# Altium schematic symbol library Altium_Box_Header_MP4C.SchLib: 79 symbols (part 2 of 2)
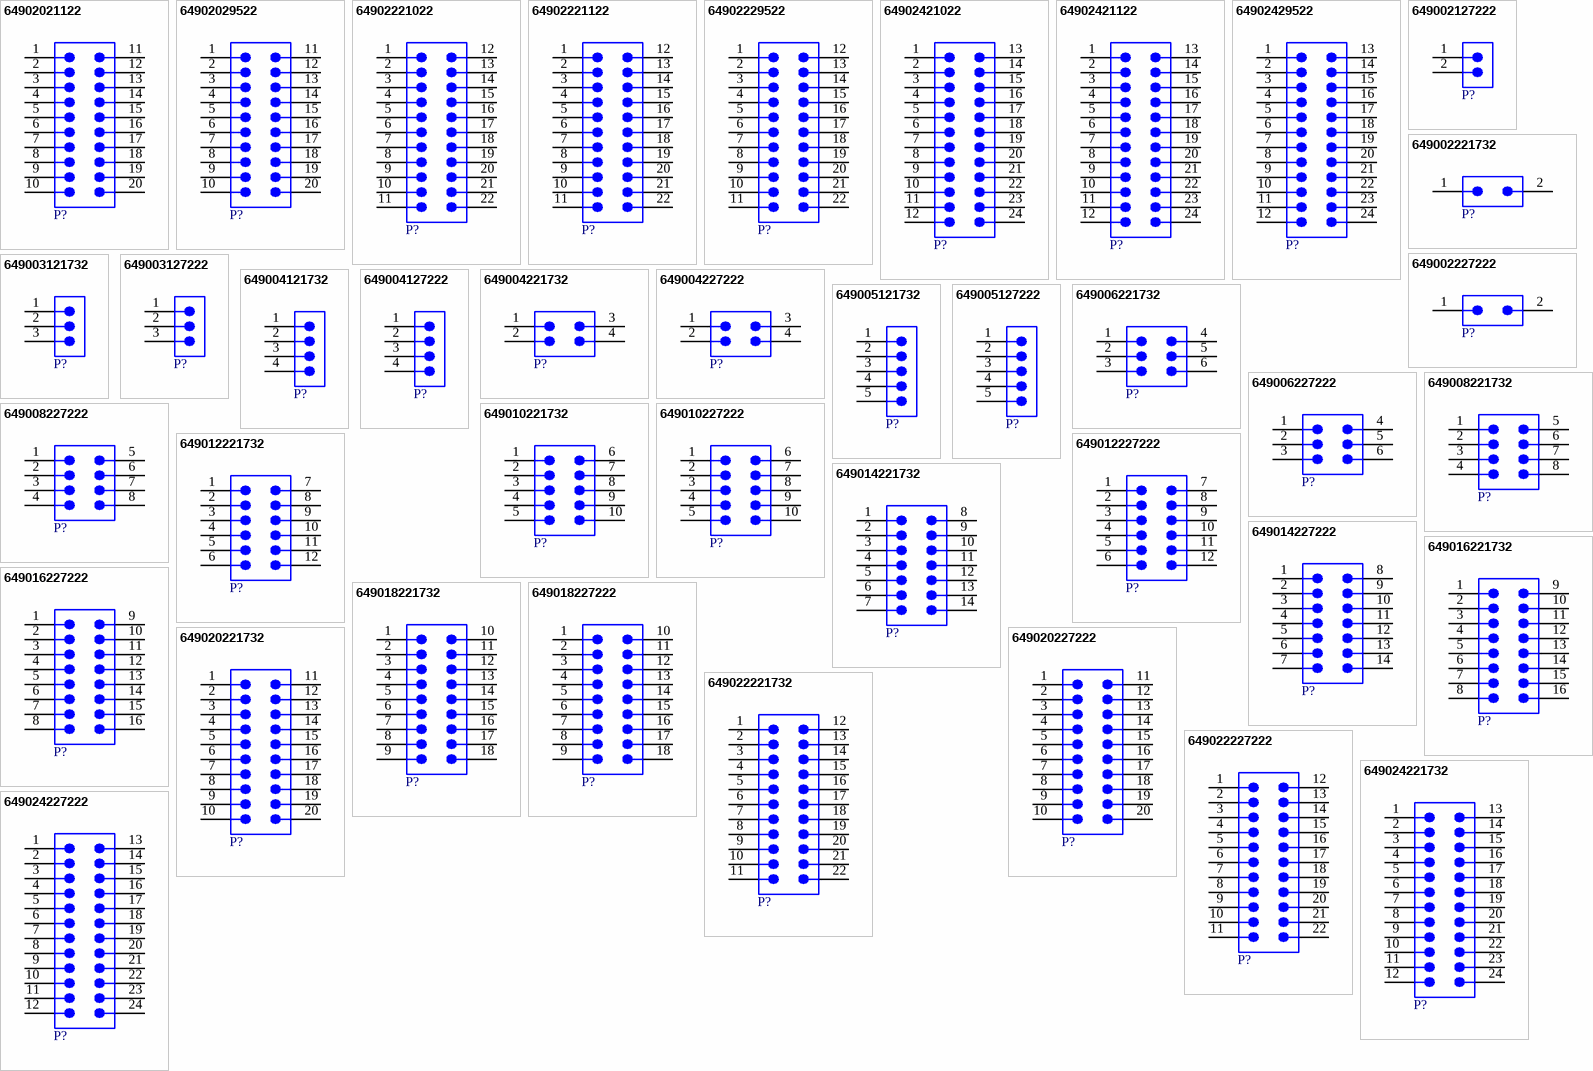
[diagram p2: symbols 64902021122 to 649024227222]

## 649004121732
designator P?  (value not drawn)
WR-MPC4 THT Male Vertical Header with Mounting Pegs, pitch 4.2mm, 4p; Manufacturer: Wurth Elektronik; Contact Resistance: 10mΩ; Insulation Resistance: 1000MΩ; Rated Current: 9A; Working Voltage: 600VAC; ComponentLink1Description: Datasheet; ComponentLink1URL: https://www.we-online.com/redexpert/spec/649004121732?ad; Manufacturer Part Number: 649004121732; Match Code: WR-MPC4; Mount: THT; Operating Temperature Max: 105°C; Operating Temperature Min: -40°C; Packaging: Tray; Gender: Male; Number of Pins: 4; Number of Rows: 1; Orientation: Vertical; Pitch: 4.2mm; Supplier 1 URL: N/A; Supplier 2 URL: N/A; Supplier 3 URL: N/A; LCSC Part #: N/A; Package / Case: WR-MPC4; Supplier 1: Mouser; Supplier 1 Part Number: N/A; Supplier 2: Digi-Key; Supplier 2 Part Number: N/A; Supplier 3: thegioiic; Supplier 3 Part Number: N/A
footprint 649004121732
pins: 1, 2, 3, 4

## 649004127222
designator P?  (value not drawn)
WR-MPC4 THT Male Right Angled Header with Mounting Pegs, pitch 4.2mm, 4p; Manufacturer: Wurth Elektronik; Contact Resistance: 10mΩ; Insulation Resistance: 1000MΩ; Rated Current: 8A; Working Voltage: 600VAC; ComponentLink1Description: Datasheet; ComponentLink1URL: https://www.we-online.com/redexpert/spec/649004127222?ad; Manufacturer Part Number: 649004127222; Match Code: WR-MPC4; Mount: THT; Operating Temperature Max: 105°C; Operating Temperature Min: -40°C; Packaging: Tray; Gender: Male; Number of Pins: 4; Number of Rows: 1; Orientation: Right Angled; Pitch: 4.2mm; Supplier 1 URL: N/A; Supplier 2 URL: N/A; Supplier 3 URL: N/A; LCSC Part #: N/A; Package / Case: WR-MPC4; Supplier 1: Mouser; Supplier 1 Part Number: N/A; Supplier 2: Digi-Key; Supplier 2 Part Number: N/A; Supplier 3: thegioiic; Supplier 3 Part Number: N/A
footprint 649004127222
pins: 1, 2, 3, 4

## 649004221732
designator P?  (value not drawn)
WR-MPC4 THT Male Vertical Header with Mounting Pegs, pitch 4.2mm, 4p; Manufacturer: Wurth Elektronik; Contact Resistance: 10mΩ; Insulation Resistance: 1000MΩ; Rated Current: 8A; Working Voltage: 600VAC; ComponentLink1Description: Datasheet; ComponentLink1URL: https://www.we-online.com/redexpert/spec/649004221732?ad; Manufacturer Part Number: 649004221732; Match Code: WR-MPC4; Mount: THT; Operating Temperature Max: 105°C; Operating Temperature Min: -40°C; Packaging: Tray; Gender: Male; Number of Pins: 4; Number of Rows: 2; Orientation: Vertical; Pitch: 4.2mm; Supplier 1 URL: N/A; Supplier 2 URL: N/A; Supplier 3 URL: N/A; LCSC Part #: N/A; Package / Case: WR-MPC4; Supplier 1: Mouser; Supplier 1 Part Number: N/A; Supplier 2: Digi-Key; Supplier 2 Part Number: N/A; Supplier 3: thegioiic; Supplier 3 Part Number: N/A
footprint 649004221732
pins: 1, 2, 3, 4

## 649004227222
designator P?  (value not drawn)
WR-MPC4 THT Male Right Angled Header with Mounting Pegs, pitch 4.2mm, 4p; Manufacturer: Wurth Elektronik; Contact Resistance: 10mΩ; Insulation Resistance: 1000MΩ; Rated Current: 8A; Working Voltage: 600VAC; ComponentLink1Description: Datasheet; ComponentLink1URL: https://www.we-online.com/redexpert/spec/649004227222?ad; Manufacturer Part Number: 649004227222; Match Code: WR-MPC4; Mount: THT; Operating Temperature Max: 105°C; Operating Temperature Min: -40°C; Packaging: Tray; Gender: Male; Number of Pins: 4; Number of Rows: 2; Orientation: Right Angled; Pitch: 4.2mm; Supplier 1 URL: N/A; Supplier 2 URL: N/A; Supplier 3 URL: N/A; LCSC Part #: N/A; Package / Case: WR-MPC4; Supplier 1: Mouser; Supplier 1 Part Number: N/A; Supplier 2: Digi-Key; Supplier 2 Part Number: N/A; Supplier 3: thegioiic; Supplier 3 Part Number: N/A
footprint 649004227222
pins: 1, 2, 3, 4

## 649005121732
designator P?  (value not drawn)
WR-MPC4 THT Male Vertical Header with Mounting Pegs, pitch 4.2mm, 5p; Manufacturer: Wurth Elektronik; Contact Resistance: 10mΩ; Insulation Resistance: 1000MΩ; Rated Current: 9A; Working Voltage: 600VAC; ComponentLink1Description: Datasheet; ComponentLink1URL: https://www.we-online.com/redexpert/spec/649005121732?ad; Manufacturer Part Number: 649005121732; Match Code: WR-MPC4; Mount: THT; Operating Temperature Max: 105°C; Operating Temperature Min: -40°C; Packaging: Tray; Gender: Male; Number of Pins: 5; Number of Rows: 1; Orientation: Vertical; Pitch: 4.2mm; Supplier 1 URL: N/A; Supplier 2 URL: N/A; Supplier 3 URL: N/A; LCSC Part #: N/A; Package / Case: WR-MPC4; Supplier 1: Mouser; Supplier 1 Part Number: N/A; Supplier 2: Digi-Key; Supplier 2 Part Number: N/A; Supplier 3: thegioiic; Supplier 3 Part Number: N/A
footprint 649005121732
pins: 1, 2, 3, 4, 5

## 649005127222
designator P?  (value not drawn)
WR-MPC4 THT Male Right Angled Header with Mounting Pegs, pitch 4.2mm, 5p; Manufacturer: Wurth Elektronik; Contact Resistance: 10mΩ; Insulation Resistance: 1000MΩ; Rated Current: 8A; Working Voltage: 600VAC; ComponentLink1Description: Datasheet; ComponentLink1URL: https://www.we-online.com/redexpert/spec/649005127222?ad; Manufacturer Part Number: 649005127222; Match Code: WR-MPC4; Mount: THT; Operating Temperature Max: 105°C; Operating Temperature Min: -40°C; Packaging: Tray; Gender: Male; Number of Pins: 5; Number of Rows: 1; Orientation: Right Angled; Pitch: 4.2mm; Supplier 1 URL: N/A; Supplier 2 URL: N/A; Supplier 3 URL: N/A; LCSC Part #: N/A; Package / Case: WR-MPC4; Supplier 1: Mouser; Supplier 1 Part Number: N/A; Supplier 2: Digi-Key; Supplier 2 Part Number: N/A; Supplier 3: thegioiic; Supplier 3 Part Number: N/A
footprint 649005127222
pins: 1, 2, 3, 4, 5

## 649006221732
designator P?  (value not drawn)
WR-MPC4 THT Male Vertical Header with Mounting Pegs, pitch 4.2mm, 6p; Manufacturer: Wurth Elektronik; Contact Resistance: 10mΩ; Insulation Resistance: 1000MΩ; Rated Current: 8A; Working Voltage: 600VAC; ComponentLink1Description: Datasheet; ComponentLink1URL: https://www.we-online.com/redexpert/spec/649006221732?ad; Manufacturer Part Number: 649006221732; Match Code: WR-MPC4; Mount: THT; Operating Temperature Max: 105°C; Operating Temperature Min: -40°C; Packaging: Tray; Gender: Male; Number of Pins: 6; Number of Rows: 2; Orientation: Vertical; Pitch: 4.2mm; Supplier 1 URL: N/A; Supplier 2 URL: N/A; Supplier 3 URL: N/A; LCSC Part #: N/A; Package / Case: WR-MPC4; Supplier 1: Mouser; Supplier 1 Part Number: N/A; Supplier 2: Digi-Key; Supplier 2 Part Number: N/A; Supplier 3: thegioiic; Supplier 3 Part Number: N/A
footprint 649006221732
pins: 1, 2, 3, 4, 5, 6

## 649006227222
designator P?  (value not drawn)
WR-MPC4 THT Male Right Angled Header with Mounting Pegs, pitch 4.2mm, 6p; Manufacturer: Wurth Elektronik; Contact Resistance: 10mΩ; Insulation Resistance: 1000MΩ; Rated Current: 8A; Working Voltage: 600VAC; ComponentLink1Description: Datasheet; ComponentLink1URL: https://www.we-online.com/redexpert/spec/649006227222?ad; Manufacturer Part Number: 649006227222; Match Code: WR-MPC4; Mount: THT; Operating Temperature Max: 105°C; Operating Temperature Min: -40°C; Packaging: Tray; Gender: Male; Number of Pins: 6; Number of Rows: 2; Orientation: Right Angled; Pitch: 4.2mm; Supplier 1 URL: N/A; Supplier 2 URL: N/A; Supplier 3 URL: N/A; LCSC Part #: N/A; Package / Case: WR-MPC4; Supplier 1: Mouser; Supplier 1 Part Number: N/A; Supplier 2: Digi-Key; Supplier 2 Part Number: N/A; Supplier 3: thegioiic; Supplier 3 Part Number: N/A
footprint 649006227222
pins: 1, 2, 3, 4, 5, 6

## 649008221732
designator P?  (value not drawn)
WR-MPC4 THT Male Vertical Header with Mounting Pegs, pitch 4.2mm, 8p; Manufacturer: Wurth Elektronik; Contact Resistance: 10mΩ; Insulation Resistance: 1000MΩ; Rated Current: 7A; Working Voltage: 600VAC; ComponentLink1Description: Datasheet; ComponentLink1URL: https://www.we-online.com/redexpert/spec/649008221732?ad; Manufacturer Part Number: 649008221732; Match Code: WR-MPC4; Mount: THT; Operating Temperature Max: 105°C; Operating Temperature Min: -40°C; Packaging: Tray; Gender: Male; Number of Pins: 8; Number of Rows: 2; Orientation: Vertical; Pitch: 4.2mm; Supplier 1 URL: N/A; Supplier 2 URL: N/A; Supplier 3 URL: N/A; LCSC Part #: N/A; Package / Case: WR-MPC4; Supplier 1: Mouser; Supplier 1 Part Number: N/A; Supplier 2: Digi-Key; Supplier 2 Part Number: N/A; Supplier 3: thegioiic; Supplier 3 Part Number: N/A
footprint 649008221732
pins: 1, 2, 3, 4, 5, 6, 7, 8

## 649008227222
designator P?  (value not drawn)
WR-MPC4 THT Male Right Angled Header with Mounting Pegs, pitch 4.2mm, 8p; Manufacturer: Wurth Elektronik; Contact Resistance: 10mΩ; Insulation Resistance: 1000MΩ; Rated Current: 7A; Working Voltage: 600VAC; ComponentLink1Description: Datasheet; ComponentLink1URL: https://www.we-online.com/redexpert/spec/649008227222?ad; Manufacturer Part Number: 649008227222; Match Code: WR-MPC4; Mount: THT; Operating Temperature Max: 105°C; Operating Temperature Min: -40°C; Packaging: Tray; Gender: Male; Number of Pins: 8; Number of Rows: 2; Orientation: Right Angled; Pitch: 4.2mm; Supplier 1 URL: N/A; Supplier 2 URL: N/A; Supplier 3 URL: N/A; LCSC Part #: N/A; Package / Case: WR-MPC4; Supplier 1: Mouser; Supplier 1 Part Number: N/A; Supplier 2: Digi-Key; Supplier 2 Part Number: N/A; Supplier 3: thegioiic; Supplier 3 Part Number: N/A
footprint 649008227222
pins: 1, 2, 3, 4, 5, 6, 7, 8

## 649010221732
designator P?  (value not drawn)
WR-MPC4 THT Male Vertical Header with Mounting Pegs, pitch 4.2mm, 10p; Manufacturer: Wurth Elektronik; Contact Resistance: 10mΩ; Insulation Resistance: 1000MΩ; Rated Current: 7A; Working Voltage: 600VAC; ComponentLink1Description: Datasheet; ComponentLink1URL: https://www.we-online.com/redexpert/spec/649010221732?ad; Manufacturer Part Number: 649010221732; Match Code: WR-MPC4; Mount: THT; Operating Temperature Max: 105°C; Operating Temperature Min: -40°C; Packaging: Tray; Gender: Male; Number of Pins: 10; Number of Rows: 2; Orientation: Vertical; Pitch: 4.2mm; Supplier 1 URL: N/A; Supplier 2 URL: N/A; Supplier 3 URL: N/A; LCSC Part #: N/A; Package / Case: WR-MPC4; Supplier 1: Mouser; Supplier 1 Part Number: N/A; Supplier 2: Digi-Key; Supplier 2 Part Number: N/A; Supplier 3: thegioiic; Supplier 3 Part Number: N/A
footprint 649010221732
pins: 1, 2, 3, 4, 5, 6, 7, 8, 9, 10

## 649010227222
designator P?  (value not drawn)
WR-MPC4 THT Male Right Angled Header with Mounting Pegs, pitch 4.2mm, 10p; Manufacturer: Wurth Elektronik; Contact Resistance: 10mΩ; Insulation Resistance: 1000MΩ; Rated Current: 7A; Working Voltage: 600VAC; ComponentLink1Description: Datasheet; ComponentLink1URL: https://www.we-online.com/redexpert/spec/649010227222?ad; Manufacturer Part Number: 649010227222; Match Code: WR-MPC4; Mount: THT; Operating Temperature Max: 105°C; Operating Temperature Min: -40°C; Packaging: Tray; Gender: Male; Number of Pins: 10; Number of Rows: 2; Orientation: Right Angled; Pitch: 4.2mm; Supplier 1 URL: N/A; Supplier 2 URL: N/A; Supplier 3 URL: N/A; LCSC Part #: N/A; Package / Case: WR-MPC4; Supplier 1: Mouser; Supplier 1 Part Number: N/A; Supplier 2: Digi-Key; Supplier 2 Part Number: N/A; Supplier 3: thegioiic; Supplier 3 Part Number: N/A
footprint 649010227222
pins: 1, 2, 3, 4, 5, 6, 7, 8, 9, 10

## 649012221732
designator P?  (value not drawn)
WR-MPC4 THT Male Vertical Header with Mounting Pegs, pitch 4.2mm, 12p; Manufacturer: Wurth Elektronik; Contact Resistance: 10mΩ; Insulation Resistance: 1000MΩ; Rated Current: 6A; Working Voltage: 600VAC; ComponentLink1Description: Datasheet; ComponentLink1URL: https://www.we-online.com/redexpert/spec/649012221732?ad; Manufacturer Part Number: 649012221732; Match Code: WR-MPC4; Mount: THT; Operating Temperature Max: 105°C; Operating Temperature Min: -40°C; Packaging: Tray; Gender: Male; Number of Pins: 12; Number of Rows: 2; Orientation: Vertical; Pitch: 4.2mm; Supplier 1 URL: N/A; Supplier 2 URL: N/A; Supplier 3 URL: N/A; LCSC Part #: N/A; Package / Case: WR-MPC4; Supplier 1: Mouser; Supplier 1 Part Number: N/A; Supplier 2: Digi-Key; Supplier 2 Part Number: N/A; Supplier 3: thegioiic; Supplier 3 Part Number: N/A
footprint 649012221732
pins: 1, 2, 3, 4, 5, 6, 7, 8, 9, 10, 11, 12

## 649012227222
designator P?  (value not drawn)
WR-MPC4 THT Male Right Angled Header with Mounting Pegs, pitch 4.2mm, 12p; Manufacturer: Wurth Elektronik; Contact Resistance: 10mΩ; Insulation Resistance: 1000MΩ; Rated Current: 6A; Working Voltage: 600VAC; ComponentLink1Description: Datasheet; ComponentLink1URL: https://www.we-online.com/redexpert/spec/649012227222?ad; Manufacturer Part Number: 649012227222; Match Code: WR-MPC4; Mount: THT; Operating Temperature Max: 105°C; Operating Temperature Min: -40°C; Packaging: Tray; Gender: Male; Number of Pins: 12; Number of Rows: 2; Orientation: Right Angled; Pitch: 4.2mm; Supplier 1 URL: N/A; Supplier 2 URL: N/A; Supplier 3 URL: N/A; LCSC Part #: N/A; Package / Case: WR-MPC4; Supplier 1: Mouser; Supplier 1 Part Number: N/A; Supplier 2: Digi-Key; Supplier 2 Part Number: N/A; Supplier 3: thegioiic; Supplier 3 Part Number: N/A
footprint 649012227222
pins: 1, 2, 3, 4, 5, 6, 7, 8, 9, 10, 11, 12

## 649014221732
designator P?  (value not drawn)
WR-MPC4 THT Male Vertical Header with Mounting Pegs, pitch 4.2mm, 14p; Manufacturer: Wurth Elektronik; Contact Resistance: 10mΩ; Insulation Resistance: 1000MΩ; Rated Current: 6A; Working Voltage: 600VAC; ComponentLink1Description: Datasheet; ComponentLink1URL: https://www.we-online.com/redexpert/spec/649014221732?ad; Manufacturer Part Number: 649014221732; Match Code: WR-MPC4; Mount: THT; Operating Temperature Max: 105°C; Operating Temperature Min: -40°C; Packaging: Tray; Gender: Male; Number of Pins: 14; Number of Rows: 2; Orientation: Vertical; Pitch: 4.2mm; Supplier 1 URL: N/A; Supplier 2 URL: N/A; Supplier 3 URL: N/A; LCSC Part #: N/A; Package / Case: WR-MPC4; Supplier 1: Mouser; Supplier 1 Part Number: N/A; Supplier 2: Digi-Key; Supplier 2 Part Number: N/A; Supplier 3: thegioiic; Supplier 3 Part Number: N/A
footprint 649014221732
pins: 1, 2, 3, 4, 5, 6, 7, 8, 9, 10, 11, 12, 13, 14

## 649014227222
designator P?  (value not drawn)
WR-MPC4 THT Male Right Angled Header with Mounting Pegs, pitch 4.2mm, 14p; Manufacturer: Wurth Elektronik; Contact Resistance: 10mΩ; Insulation Resistance: 1000MΩ; Rated Current: 6A; Working Voltage: 600VAC; ComponentLink1Description: Datasheet; ComponentLink1URL: https://www.we-online.com/redexpert/spec/649014227222?ad; Manufacturer Part Number: 649014227222; Match Code: WR-MPC4; Mount: THT; Operating Temperature Max: 105°C; Operating Temperature Min: -40°C; Packaging: Tray; Gender: Male; Number of Pins: 14; Number of Rows: 2; Orientation: Right Angled; Pitch: 4.2mm; Supplier 1 URL: N/A; Supplier 2 URL: N/A; Supplier 3 URL: N/A; LCSC Part #: N/A; Package / Case: WR-MPC4; Supplier 1: Mouser; Supplier 1 Part Number: N/A; Supplier 2: Digi-Key; Supplier 2 Part Number: N/A; Supplier 3: thegioiic; Supplier 3 Part Number: N/A
footprint 649014227222
pins: 1, 2, 3, 4, 5, 6, 7, 8, 9, 10, 11, 12, 13, 14

## 649016221732
designator P?  (value not drawn)
WR-MPC4 THT Male Vertical Header with Mounting Pegs, pitch 4.2mm, 16p; Manufacturer: Wurth Elektronik; Contact Resistance: 10mΩ; Insulation Resistance: 1000MΩ; Rated Current: 6A; Working Voltage: 600VAC; ComponentLink1Description: Datasheet; ComponentLink1URL: https://www.we-online.com/redexpert/spec/649016221732?ad; Manufacturer Part Number: 649016221732; Match Code: WR-MPC4; Mount: THT; Operating Temperature Max: 105°C; Operating Temperature Min: -40°C; Packaging: Tray; Gender: Male; Number of Pins: 16; Number of Rows: 2; Orientation: Vertical; Pitch: 4.2mm; Supplier 1 URL: N/A; Supplier 2 URL: N/A; Supplier 3 URL: N/A; LCSC Part #: N/A; Package / Case: WR-MPC4; Supplier 1: Mouser; Supplier 1 Part Number: N/A; Supplier 2: Digi-Key; Supplier 2 Part Number: N/A; Supplier 3: thegioiic; Supplier 3 Part Number: N/A
footprint 649016221732
pins: 1, 2, 3, 4, 5, 6, 7, 8, 9, 10, 11, 12, 13, 14, 15, 16

## 649016227222
designator P?  (value not drawn)
WR-MPC4 THT Male Right Angled Header with Mounting Pegs, pitch 4.2mm, 16p; Manufacturer: Wurth Elektronik; Contact Resistance: 10mΩ; Insulation Resistance: 1000MΩ; Rated Current: 6A; Working Voltage: 600VAC; ComponentLink1Description: Datasheet; ComponentLink1URL: https://www.we-online.com/redexpert/spec/649016227222?ad; Manufacturer Part Number: 649016227222; Match Code: WR-MPC4; Mount: THT; Operating Temperature Max: 105°C; Operating Temperature Min: -40°C; Packaging: Tray; Gender: Male; Number of Pins: 16; Number of Rows: 2; Orientation: Right Angled; Pitch: 4.2mm; Supplier 1 URL: N/A; Supplier 2 URL: N/A; Supplier 3 URL: N/A; LCSC Part #: N/A; Package / Case: WR-MPC4; Supplier 1: Mouser; Supplier 1 Part Number: N/A; Supplier 2: Digi-Key; Supplier 2 Part Number: N/A; Supplier 3: thegioiic; Supplier 3 Part Number: N/A
footprint 649016227222
pins: 1, 2, 3, 4, 5, 6, 7, 8, 9, 10, 11, 12, 13, 14, 15, 16

## 649018221732
designator P?  (value not drawn)
WR-MPC4 THT Male Vertical Header with Mounting Pegs, pitch 4.2mm, 18p; Manufacturer: Wurth Elektronik; Contact Resistance: 10mΩ; Insulation Resistance: 1000MΩ; Rated Current: 6A; Working Voltage: 600VAC; ComponentLink1Description: Datasheet; ComponentLink1URL: https://www.we-online.com/redexpert/spec/649018221732?ad; Manufacturer Part Number: 649018221732; Match Code: WR-MPC4; Mount: THT; Operating Temperature Max: 105°C; Operating Temperature Min: -40°C; Packaging: Tray; Gender: Male; Number of Pins: 18; Number of Rows: 2; Orientation: Vertical; Pitch: 4.2mm; Supplier 1 URL: N/A; Supplier 2 URL: N/A; Supplier 3 URL: N/A; LCSC Part #: N/A; Package / Case: WR-MPC4; Supplier 1: Mouser; Supplier 1 Part Number: N/A; Supplier 2: Digi-Key; Supplier 2 Part Number: N/A; Supplier 3: thegioiic; Supplier 3 Part Number: N/A
footprint 649018221732
pins: 1, 2, 3, 4, 5, 6, 7, 8, 9, 10, 11, 12, 13, 14, 15, 16, 17, 18

## 649018227222
designator P?  (value not drawn)
WR-MPC4 THT Male Right Angled Header with Mounting Pegs, pitch 4.2mm, 18p; Manufacturer: Wurth Elektronik; Contact Resistance: 10mΩ; Insulation Resistance: 1000MΩ; Rated Current: 6A; Working Voltage: 600VAC; ComponentLink1Description: Datasheet; ComponentLink1URL: https://www.we-online.com/redexpert/spec/649018227222?ad; Manufacturer Part Number: 649018227222; Match Code: WR-MPC4; Mount: THT; Operating Temperature Max: 105°C; Operating Temperature Min: -40°C; Packaging: Tray; Gender: Male; Number of Pins: 18; Number of Rows: 2; Orientation: Right Angled; Pitch: 4.2mm; Supplier 1 URL: N/A; Supplier 2 URL: N/A; Supplier 3 URL: N/A; LCSC Part #: N/A; Package / Case: WR-MPC4; Supplier 1: Mouser; Supplier 1 Part Number: N/A; Supplier 2: Digi-Key; Supplier 2 Part Number: N/A; Supplier 3: thegioiic; Supplier 3 Part Number: N/A
footprint 649018227222
pins: 1, 2, 3, 4, 5, 6, 7, 8, 9, 10, 11, 12, 13, 14, 15, 16, 17, 18

## 649020221732
designator P?  (value not drawn)
WR-MPC4 THT Male Vertical Header with Mounting Pegs, pitch 4.2mm, 20p; Manufacturer: Wurth Elektronik; Contact Resistance: 10mΩ; Insulation Resistance: 1000MΩ; Rated Current: 6A; Working Voltage: 600VAC; ComponentLink1Description: Datasheet; ComponentLink1URL: https://www.we-online.com/redexpert/spec/649020221732?ad; Manufacturer Part Number: 649020221732; Match Code: WR-MPC4; Mount: THT; Operating Temperature Max: 105°C; Operating Temperature Min: -40°C; Packaging: Tray; Gender: Male; Number of Pins: 20; Number of Rows: 2; Orientation: Vertical; Pitch: 4.2mm; Supplier 1 URL: N/A; Supplier 2 URL: N/A; Supplier 3 URL: N/A; LCSC Part #: N/A; Package / Case: WR-MPC4; Supplier 1: Mouser; Supplier 1 Part Number: N/A; Supplier 2: Digi-Key; Supplier 2 Part Number: N/A; Supplier 3: thegioiic; Supplier 3 Part Number: N/A
footprint 649020221732
pins: 1, 2, 3, 4, 5, 6, 7, 8, 9, 10, 11, 12, 13, 14, 15, 16, 17, 18, 19, 20

## 649020227222
designator P?  (value not drawn)
WR-MPC4 THT Male Right Angled Header with Mounting Pegs, pitch 4.2mm, 20p; Manufacturer: Wurth Elektronik; Contact Resistance: 10mΩ; Insulation Resistance: 1000MΩ; Rated Current: 6A; Working Voltage: 600VAC; ComponentLink1Description: Datasheet; ComponentLink1URL: https://www.we-online.com/redexpert/spec/649020227222?ad; Manufacturer Part Number: 649020227222; Match Code: WR-MPC4; Mount: THT; Operating Temperature Max: 105°C; Operating Temperature Min: -40°C; Packaging: Tray; Gender: Male; Number of Pins: 20; Number of Rows: 2; Orientation: Right Angled; Pitch: 4.2mm; Supplier 1 URL: N/A; Supplier 2 URL: N/A; Supplier 3 URL: N/A; LCSC Part #: N/A; Package / Case: WR-MPC4; Supplier 1: Mouser; Supplier 1 Part Number: N/A; Supplier 2: Digi-Key; Supplier 2 Part Number: N/A; Supplier 3: thegioiic; Supplier 3 Part Number: N/A
footprint 649020227222
pins: 1, 2, 3, 4, 5, 6, 7, 8, 9, 10, 11, 12, 13, 14, 15, 16, 17, 18, 19, 20

## 649022221732
designator P?  (value not drawn)
WR-MPC4 THT Male Vertical Header with Mounting Pegs, pitch 4.2mm, 22p; Manufacturer: Wurth Elektronik; Contact Resistance: 10mΩ; Insulation Resistance: 1000MΩ; Rated Current: 6A; Working Voltage: 600VAC; ComponentLink1Description: Datasheet; ComponentLink1URL: https://www.we-online.com/redexpert/spec/649022221732?ad; Manufacturer Part Number: 649022221732; Match Code: WR-MPC4; Mount: THT; Operating Temperature Max: 105°C; Operating Temperature Min: -40°C; Packaging: Tray; Gender: Male; Number of Pins: 22; Number of Rows: 2; Orientation: Vertical; Pitch: 4.2mm; Supplier 1 URL: N/A; Supplier 2 URL: N/A; Supplier 3 URL: N/A; LCSC Part #: N/A; Package / Case: WR-MPC4; Supplier 1: Mouser; Supplier 1 Part Number: N/A; Supplier 2: Digi-Key; Supplier 2 Part Number: N/A; Supplier 3: thegioiic; Supplier 3 Part Number: N/A
footprint 649022221732
pins: 1, 2, 3, 4, 5, 6, 7, 8, 9, 10, 11, 12, 13, 14, 15, 16, 17, 18, 19, 20, 21, 22

## 649022227222
designator P?  (value not drawn)
WR-MPC4 THT Male Right Angled Header with Mounting Pegs, pitch 4.2mm, 22p; Manufacturer: Wurth Elektronik; Contact Resistance: 10mΩ; Insulation Resistance: 1000MΩ; Rated Current: 6A; Working Voltage: 600VAC; ComponentLink1Description: Datasheet; ComponentLink1URL: https://www.we-online.com/redexpert/spec/649022227222?ad; Manufacturer Part Number: 649022227222; Match Code: WR-MPC4; Mount: THT; Operating Temperature Max: 105°C; Operating Temperature Min: -40°C; Packaging: Tray; Gender: Male; Number of Pins: 22; Number of Rows: 2; Orientation: Right Angled; Pitch: 4.2mm; Supplier 1 URL: N/A; Supplier 2 URL: N/A; Supplier 3 URL: N/A; LCSC Part #: N/A; Package / Case: WR-MPC4; Supplier 1: Mouser; Supplier 1 Part Number: N/A; Supplier 2: Digi-Key; Supplier 2 Part Number: N/A; Supplier 3: thegioiic; Supplier 3 Part Number: N/A
footprint 649022227222
pins: 1, 2, 3, 4, 5, 6, 7, 8, 9, 10, 11, 12, 13, 14, 15, 16, 17, 18, 19, 20, 21, 22

## 649024221732
designator P?  (value not drawn)
WR-MPC4 THT Male Vertical Header with Mounting Pegs, pitch 4.2mm, 24p; Manufacturer: Wurth Elektronik; Contact Resistance: 10mΩ; Insulation Resistance: 1000MΩ; Rated Current: 6A; Working Voltage: 600VAC; ComponentLink1Description: Datasheet; ComponentLink1URL: https://www.we-online.com/redexpert/spec/649024221732?ad; Manufacturer Part Number: 649024221732; Match Code: WR-MPC4; Mount: THT; Operating Temperature Max: 105°C; Operating Temperature Min: -40°C; Packaging: Tray; Gender: Male; Number of Pins: 24; Number of Rows: 2; Orientation: Vertical; Pitch: 4.2mm; Supplier 1 URL: N/A; Supplier 2 URL: N/A; Supplier 3 URL: N/A; LCSC Part #: N/A; Package / Case: WR-MPC4; Supplier 1: Mouser; Supplier 1 Part Number: N/A; Supplier 2: Digi-Key; Supplier 2 Part Number: N/A; Supplier 3: thegioiic; Supplier 3 Part Number: N/A
footprint 649024221732
pins: 1, 2, 3, 4, 5, 6, 7, 8, 9, 10, 11, 12, 13, 14, 15, 16, 17, 18, 19, 20, 21, 22, 23, 24

## 649024227222
designator P?  (value not drawn)
WR-MPC4 THT Male Right Angled Header with Mounting Pegs, pitch 4.2mm, 24p; Manufacturer: Wurth Elektronik; Contact Resistance: 10mΩ; Insulation Resistance: 1000MΩ; Rated Current: 6A; Working Voltage: 600VAC; ComponentLink1Description: Datasheet; ComponentLink1URL: https://www.we-online.com/redexpert/spec/649024227222?ad; Manufacturer Part Number: 649024227222; Match Code: WR-MPC4; Mount: THT; Operating Temperature Max: 105°C; Operating Temperature Min: -40°C; Packaging: Tray; Gender: Male; Number of Pins: 24; Number of Rows: 2; Orientation: Right Angled; Pitch: 4.2mm; Supplier 1 URL: N/A; Supplier 2 URL: N/A; Supplier 3 URL: N/A; LCSC Part #: N/A; Package / Case: WR-MPC4; Supplier 1: Mouser; Supplier 1 Part Number: N/A; Supplier 2: Digi-Key; Supplier 2 Part Number: N/A; Supplier 3: thegioiic; Supplier 3 Part Number: N/A
footprint 649024227222
pins: 1, 2, 3, 4, 5, 6, 7, 8, 9, 10, 11, 12, 13, 14, 15, 16, 17, 18, 19, 20, 21, 22, 23, 24